# Altium schematic symbol library 二极管-整流桥.SchLib: 9 symbols
Pins are listed as number, name and electrical type; pins without a type are passive.

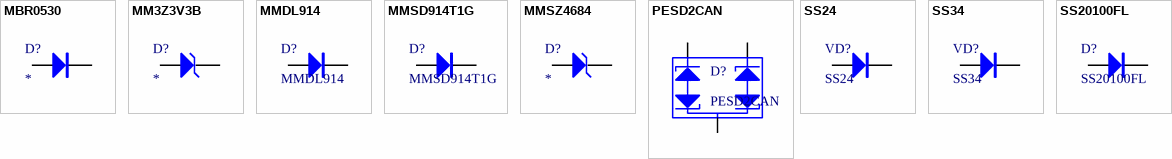
[diagram p0: symbols MBR0530 to SS20100FL]

## MBR0530
designator D?
30V 0.5A
footprint SOD-123 (2.7x1.6X1.1mm（长宽高，不包括引脚）)
pins: A, K

## MM3Z3V3B
designator D?
3.14V~3.47V / 300mW
footprint SOD-323 (1.8x1.3X0.9mm（长宽高，不包括引脚）)
pins: A, K

## MMDL914
designator D?
100V 0.2A开关管
footprint SOD-323 (1.8x1.3X0.9mm（长宽高，不包括引脚）)
pins: A, K

## MMSD914T1G
designator D?
100V 0.2A开关管
footprint SOD-123 (2.7x1.6X1.1mm（长宽高，不包括引脚）)
pins: A, K

## MMSZ4684
designator D?
3.14V~3.47V / 350mW
footprint SOD-123 (2.7x1.6X1.1mm（长宽高，不包括引脚）)
pins: A, K

## PESD2CAN
designator D?
瞬态抑制二极管
footprint SOT23-3L (SOT23, 3-Leads, Body 2.9x1.3mm, Pitch 0.95mm, Lead Span 2.3mm - Reverse Pinning, IPC High Density)
pins: 1, 2, 3

## SS24
designator VD?
肖特基二极管; 版权归属: 源创客; 属性: 40V/2A; BOM名称: 肖特基二极管; 学习资源: www.ooocke.com
footprint SMB (4.7*3.9*2.2mm(长宽高，不包括引脚）)
pins: A, K

## SS34
designator VD?
肖特基二极管; 版权归属: 源创客; 属性: 40V/3A; BOM名称: 肖特基二极管; 学习资源: www.ooocke.com
footprint SMC (7.1x5.9*2.3mm（长宽高，不包括引脚）)
pins: A, K

## SS20100FL
designator D?
100V 2A肖特基二极管
footprint SOD-123F (2.7x1.6X1.1mm（长宽高，不包括引脚）)
pins: A, K